# Altium footprint library Resistors.PcbLib: 21 footprints (part 1 of 2)
Each footprint in its own frame and in the unit in brackets; x right, y up, seen from the top. Pads: shape width x height; smd on the part's side, far side on the other; paste and mask are expansions set on the pad; w line width, h text height; cw(c..) or ccw(c..) is an arc to the next point about the centre after c.
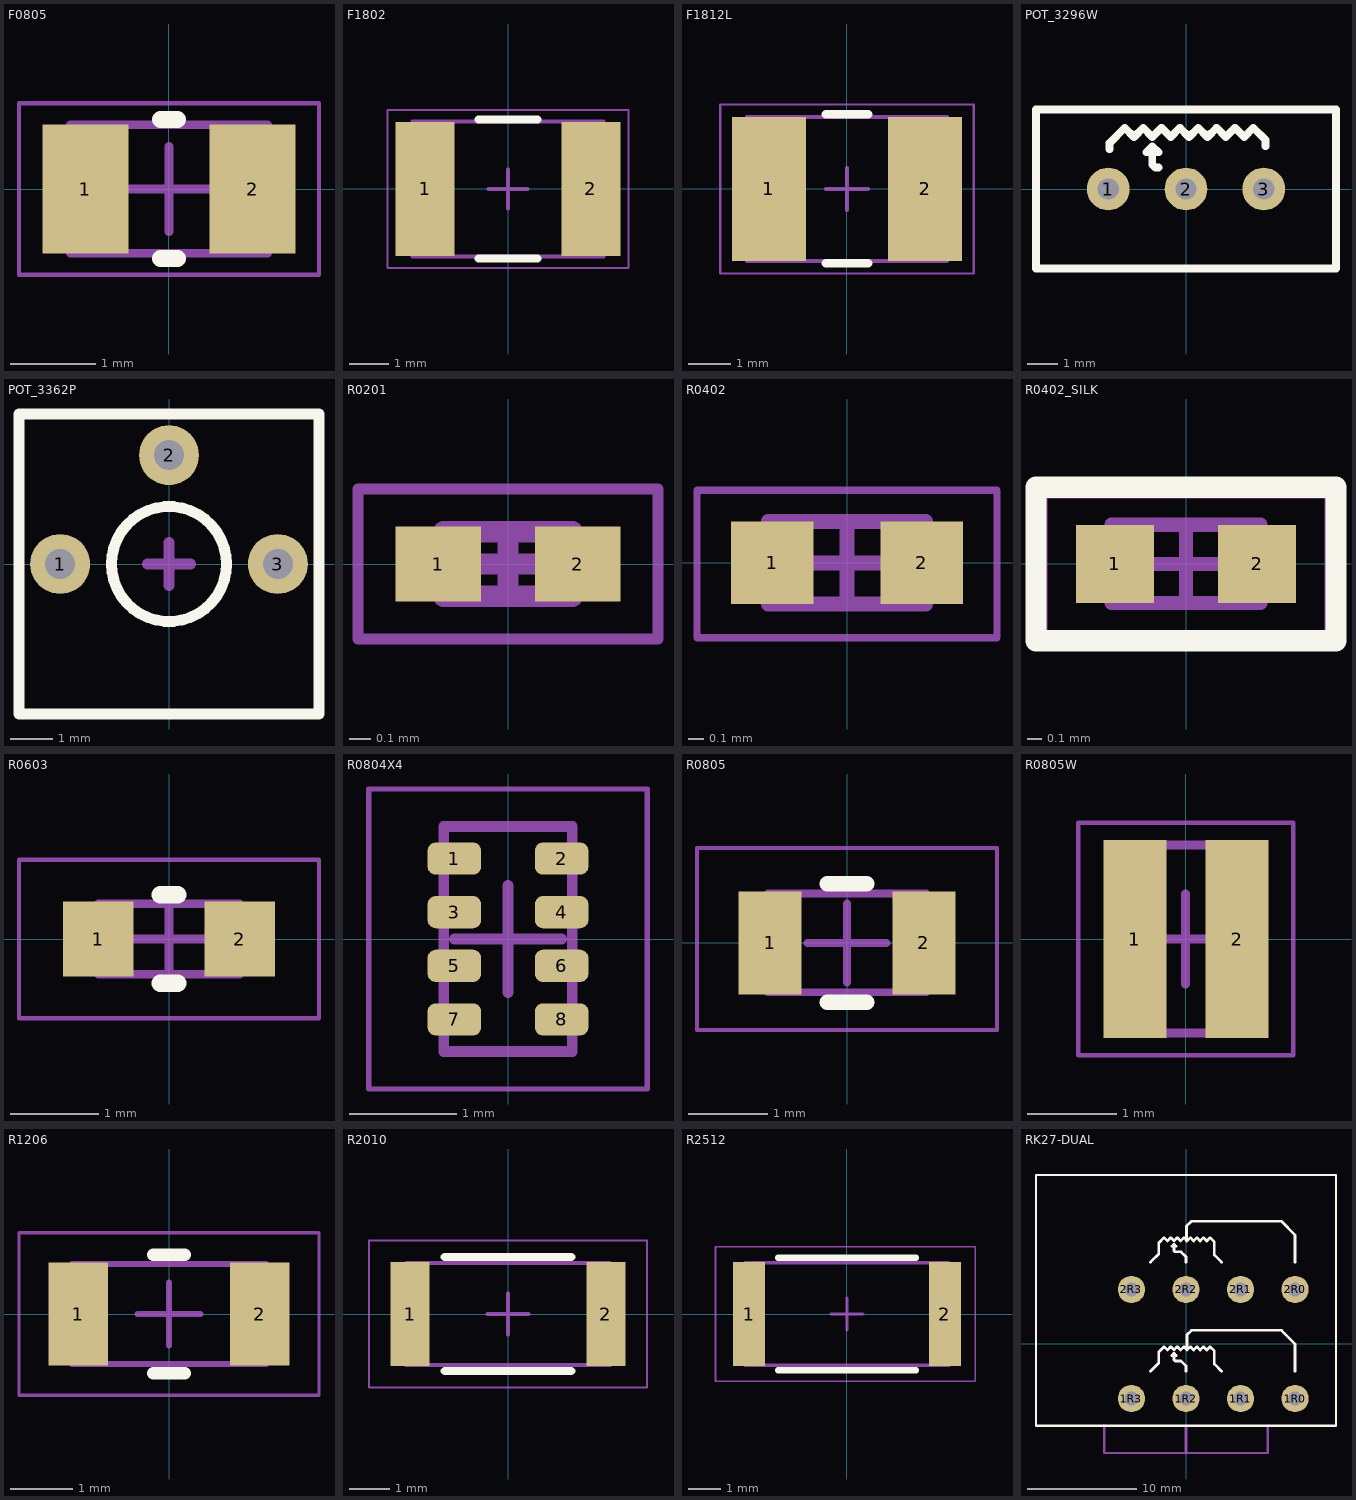
[diagram p0: the footprints below, top view; thin cyan lines are the x and y axes]

## F0805 [mm] "Chip Fuse, 2-Leads, Body 2,15x1,35mm, IPC Medium Density"
height 1.25
pads (2):
  rect 1x1.5 smd mask+0.05: 1(-0.975,0) 2(0.975,0)
Top Overlay:
  lines w0.2: -0.1,-0.81 0.1,-0.81 ; -0.1,0.81 0.1,0.81
Mechanical 13:
  lines w0.1: -1.15,-0.75 1.15,-0.75 1.15,0.75 -1.15,0.75 -1.15,-0.75
Mechanical 15:
  lines w0.05: -1.75,-1 1.75,-1 1.75,1 -1.75,1 -1.75,-1
  lines w0.1: -0.5,0 0.5,0 ; 0,-0.5 0,0.5
3D body "User Library-Part1-227.step": height 0.86, standoff -0.01, extent -1.15,-0.75 1.15,0.75

## F1802 [mm] "Chip Fuse, 2-Leads, Body 4,60x3,24mm, IPC Medium Density"
height 1.6
pads (2):
  rect 1.5x3.4 smd: 1(-2.1,0) 2(2.1,0)
Top Overlay:
  lines w0.2: -0.75,-1.76 0.75,-1.76 ; -0.75,1.76 0.75,1.76
Mechanical 13:
  lines w0.1: -2.415,-1.705 2.415,-1.705 2.415,1.705 -2.415,1.705 -2.415,-1.705
Mechanical 15:
  lines w0.05: -3.05,-2 3.05,-2 3.05,2 -3.05,2 -3.05,-2
  lines w0.1: -0.5,0 0.5,0 ; 0,-0.5 0,0.5
3D body "MF-MSMF075.step": height 0.71, standoff 0, extent -2.28,-1.624 2.27,1.616

## F1812L [mm] "Chip Fuse, 2-Leads, Body 4,55x3,24mm, IPC Medium Density"
height 1.25
pads (2):
  rect 1.75x3.4 smd: 1(-1.85,0) 2(1.85,0)
Top Overlay:
  lines w0.2: -0.5,-1.76 0.5,-1.76 ; -0.5,1.77 0.5,1.77
Mechanical 13:
  lines w0.1: -2.365,-1.705 -2.365,1.705 2.365,1.705 2.365,-1.705 -2.365,-1.705
Mechanical 15:
  lines w0.05: -3,-2 -3,2 3,2 3,-2 -3,-2
  lines w0.1: -0.5,0 0.5,0 ; 0,-0.5 0,0.5
3D body "User Library-1812L.step": height 1.34, standoff 0, extent -2.365,-1.705 2.365,1.705

## POT_3296W [mm] "3296 - 3/8 ” Square Trimpot® Trimming Potentiometer"
height 11.5
pads (3):
  round 1.4 hole 0.7: 1(-2.54,0) 2(0,0) 3(2.54,0)
Top Overlay:
  lines w0.254: -2.5,1.3 -2.5,1.5 ; -0.9,0.7 -1,0.7 -1.1,0.8 -1.1,1.4 ; 2.6,1.4 2.6,1.6 2.2,2 1.9,1.7 1.6,2 1.3,1.7 1,2 0.7,1.7 ; -2.5,1.5 -2,2 -1.7,1.7 ; -2.5,1.5 -2.5,1.5 ; -1.7,1.7 -1.4,2 ; -1.7,1.7 -1.7,1.7 ; -1.4,2 -1.1,1.7 -0.8,2 -0.5,1.7 ; -1.4,2 -1.4,2 ; -1.1,1.4 -0.9,1.2 -1.3,1.2 -1.1,1.4 ; -0.5,1.7 -0.2,2 0.1,1.7 0.4,2 0.7,1.7 ; -0.5,1.7 -0.5,1.7 ; 0.7,1.7 0.7,1.7 ; -4.9,-2.6 4.9,-2.6 4.9,2.6 -4.9,2.6 -4.9,-2.6
3D body "User Library-bourns 3296 pot.step": height 11.55, standoff -6.4, extent -4.765,-2.401 4.765,2.43

## POT_3362P [mm] "3362 - 1/4 ” Square Trimpot® Trimming Potentiometer"
height 4.7
pads (3):
  round 1.4 hole 0.7: 1(-2.54,0) 2(0,2.54) 3(2.54,0)
Top Overlay:
  circle w0.254: c0,0 r1.342
  lines w0.254: -3.5,-3.5 3.5,-3.5 3.5,3.5 -3.5,3.5 -3.5,-3.5
Mechanical 15:
  lines w0.254: -0.5,0 0.5,0 ; 0,-0.5 0,0.021 0,0.5
3D body "User Library-3362P-1-102LF.step": height 4.4, standoff -3, extent -3.3,-3.3 3.3,3.3

## R0201 [mm] "Chip Resistor, 2-Leads, Body 0.60x0.30mm, IPC Medium Density"
height 0.23
pads (2):
  rect 0.4x0.35 smd mask+0.05: 1(-0.325,0) 2(0.325,0)
Mechanical 13:
  lines w0.1: -0.3,-0.15 -0.3,0.15 0.3,0.15 0.3,-0.15 -0.3,-0.15
Mechanical 15:
  lines w0.05: -0.7,-0.35 -0.7,0.35 0.7,0.35 0.7,-0.35 -0.7,-0.35
  lines w0.1: -0.15,0 0.15,0 ; 0,-0.15 0,0.15
3D body "R0201.step": height 0.23, standoff 0, extent -0.3,-0.15 0.3,0.15

## R0402 [mm]
height 0.35
pads (2):
  rect 0.55x0.55 smd mask+0.05: 1(-0.5,0) 2(0.5,0)
Mechanical 13:
  lines w0.1: -0.525,-0.275 0.525,-0.275 0.525,0.275 -0.525,0.275 -0.525,-0.275
Mechanical 15:
  lines w0.05: -1,-0.5 -1,0.486 1,0.486 1,-0.5 -1,-0.5
  lines w0.1: -0.275,0 0.275,0 ; 0,-0.275 0,0.275
3D body "R0402.step": height 0.35, standoff 0, extent -0.525,-0.275 0.525,0.275

## R0402_SILK [mm]
height 0.35
pads (2):
  rect 0.55x0.55 smd mask+0.05: 1(-0.5,0) 2(0.5,0)
Top Overlay:
  lines w0.15: -1.055,-0.54 1.055,-0.54 1.055,0.539 -1.055,0.539 -1.055,-0.54
Mechanical 13:
  lines w0.1: -0.525,-0.275 0.525,-0.275 0.525,0.275 -0.525,0.275 -0.525,-0.275
Mechanical 15:
  lines w0.05: -1,-0.5 -1,0.486 1,0.486 1,-0.5 -1,-0.5
  lines w0.1: -0.275,0 0.275,0 ; 0,-0.275 0,0.275
3D body "R0402.step": height 0.35, standoff 0, extent -0.525,-0.275 0.525,0.275

## R0603 [mm] "Chip Resistor, 2-Leads, Body 1.60x0.80mm, IPC Medium Density"
height 0.8
pads (2):
  rect 0.8x0.85 smd mask+0.05: 1(-0.8,0) 2(0.8,0)
Top Overlay:
  lines w0.2: -0.1,-0.5 0.1,-0.5 ; -0.1,0.5 0.1,0.5
Mechanical 13:
  lines w0.1: -0.8,-0.4 -0.8,0.4 0.8,0.4 0.8,-0.4 -0.8,-0.4
Mechanical 15:
  lines w0.05: -1.7,-0.9 -1.7,0.9 1.7,0.9 1.7,-0.9 -1.7,-0.9
  lines w0.1: -0.4,0 0.4,0 ; 0,-0.4 0,0.4
3D body "R0603_.step": height 0.8, standoff 0, extent -0.8,-0.4 0.8,0.4

## R0804X4 [mm] "Chip Array, Flat, 8-Leads, Pitch 0,50mm,  Body 2,00x1,00mm,  IPC Medium Density"
height 0.5
pads (8):
  rrect50% 0.5x0.3 smd mask+0.05: 1(-0.5,0.75) 2(0.5,0.75) 3(-0.5,0.25) 4(0.5,0.25) 5(-0.5,-0.25) 6(0.5,-0.25) 7(-0.5,-0.75) 8(0.5,-0.75)
Mechanical 13:
  lines w0.1: -0.6,-1.05 0.6,-1.05 0.6,1.05 -0.6,1.05 -0.6,-1.05
Mechanical 15:
  lines w0.05: -1.3,-1.4 1.3,-1.4 1.3,1.4 -1.3,1.4 -1.3,-1.4
  lines w0.1: -0.5,0 0.5,0 ; 0,-0.5 0,0.5
3D body "User Library-CAT10-000.STEP": height 0.4, standoff 0, extent -0.5,-1 0.5,1

## R0805 [mm] "Chip Resistor, 2-Leads, Body 2.00x1.25mm, IPC Medium Density"
height 0.8
pads (2):
  rect 0.8x1.3 smd mask+0.05: 1(-0.975,0) 2(0.975,0)
Top Overlay:
  lines w0.2: -0.25,-0.75 0.25,-0.75 ; -0.25,0.75 0.25,0.75
Mechanical 13:
  lines w0.1: -1,-0.625 -1,0.625 1,0.625 1,-0.625 -1,-0.625
Mechanical 15:
  lines w0.05: -1.9,-1.1 -1.9,1.2 1.9,1.2 1.9,-1.1 -1.9,-1.1
  lines w0.1: -0.5,0 0.5,0 ; 0,-0.5 0,0.5
3D body "R0805_.step": height 0.8, standoff 0, extent -1,-0.625 1,0.625

## R0805W [mm] "Wide Chip Resistor, 2-Leads, Body 1.33x2.00mm, IPC Medium Density"
height 0.5
pads (2):
  rect 0.7x2.21 smd mask+0.05: 1(-0.565,0) 2(0.575,0)
Mechanical 13:
  lines w0.1: -0.725,-1.05 0.725,-1.05 0.725,1.05 -0.725,1.05 -0.725,-1.05
Mechanical 15:
  lines w0.05: -1.2,-1.3 1.2,-1.3 1.2,1.3 -1.2,1.3 -1.2,-1.3
  lines w0.1: -0.5,0 0.5,0 ; 0,-0.5 0,0.5
3D body "RES_2012_SUS.step": height 0.71, standoff 0, extent -0.724,-1.105 0.724,1.105

## R1206 [mm] "Chip Resistor, 2-Leads, Body 3.10x1.60mm, IPC Medium Density"
height 0.8
pads (2):
  rect 0.95x1.65 smd: 1(-1.45,0) 2(1.45,0)
Top Overlay:
  lines w0.2: -0.25,-0.95 0.25,-0.95 ; -0.25,0.95 0.25,0.95
Mechanical 13:
  lines w0.1: -1.55,-0.8 1.55,-0.8 1.55,0.8 -1.55,0.8 -1.55,-0.8
Mechanical 15:
  lines w0.05: -2.4,-1.3 2.4,-1.3 2.4,1.3 -2.4,1.3 -2.4,-1.3
  lines w0.1: -0.5,0 0.5,0 ; 0,-0.5 0,0.5
3D body "R1206_.step": height 0.8, standoff 0, extent -1.55,-0.8 1.55,0.8

## R2010 [mm] "Chip Resistor, 2-Leads, Body 5.00x2.50mm, IPC Medium Density"
height 0.8
pads (2):
  rect 0.95x2.55 smd mask+0.05: 1(-2.4,0) 2(2.4,0)
Top Overlay:
  lines w0.2: -1.55,-1.4 1.55,-1.4 ; -1.55,1.4 1.55,1.4
Mechanical 13:
  lines w0.1: -2.5,-1.25 -2.5,1.25 2.5,1.25 2.5,-1.25 -2.5,-1.25
Mechanical 15:
  lines w0.05: -3.4,-1.8 -3.4,1.8 3.4,1.8 3.4,-1.8 -3.4,-1.8
  lines w0.1: -0.5,0 0.5,0 ; 0,-0.5 0,0.5
3D body "R1210_.step": height 0.8, standoff 0, extent -2.5,-1.25 2.5,1.25

## R2512 [mm] "Chip Resistor, 2-Leads, Body 6.35x3.20mm, IPC Medium Density"
height 0.8
pads (2):
  rect 1x3.25 smd: 1(-3.05,0) 2(3.05,0)
Top Overlay:
  lines w0.2: -2.15,-1.755 2.15,-1.755 ; -2.15,1.755 2.15,1.755
Mechanical 13:
  lines w0.1: -3.175,-1.6 3.175,-1.6 3.175,1.6 -3.175,1.6 -3.175,-1.6
Mechanical 15:
  lines w0.05: -4.1,-2.1 4,-2.1 4,2.1 -4.1,2.1 -4.1,-2.1
  lines w0.1: -0.5,0 0.5,0 ; 0,-0.5 0,0.5
3D body "R2512_.step": height 0.8, standoff 0, extent -3.175,-1.6 3.175,1.6

## RK27-DUAL [mm] "Single-shaft, dual-unit RK27112"
height 24.5
pads (8):
  round 2.5 hole 1.3: 1R0(10,-5) 1R1(5,-5) 1R2(0,-5) 1R3(-5,-5) 2R0(10,5) 2R1(5,5) 2R2(0,5) 2R3(-5,5)
Top Overlay:
  lines w0.2: -13.75,-7.5 -13.75,15.5 13.75,15.5 13.75,-7.5 -13.75,-7.5
  lines w0.254: -3.25,-2.5 -2.5,-1.75 -2.5,-0.95 -2.5,-0.75 ; -3.25,7.5 -2.5,8.25 -2.5,9.05 -2.5,9.25 ; 0,-2.5 0,-2 -0.45,-1.55 -0.9,-1.55 -1,-1.55 -1.1,-1.45 -1.1,-0.85 ; 0,7.5 0,8 -0.45,8.45 -0.9,8.45 -1,8.45 -1.1,8.55 -1.1,9.15 ; 0.051,9.452 0.051,10.801 0.5,11.25 8.75,11.25 10,10 10,7.5 ; 3.25,-2.5 2.6,-1.85 2.6,-0.85 2.6,-0.65 2.2,-0.25 1.9,-0.55 1.6,-0.25 1.3,-0.55 1,-0.25 0.7,-0.55 ; 3.25,7.5 2.6,8.15 2.6,9.15 2.6,9.35 2.2,9.75 1.9,9.45 1.6,9.75 1.3,9.45 1,9.75 0.7,9.45 ; 10,-2.5 10,0 8.75,1.25 0.5,1.25 0.1,0.85 0.1,-0.55 ; -2.5,-0.75 -2.5,-0.75 ; -2.5,-0.75 -2,-0.25 -1.7,-0.55 ; -2.5,9.25 -2.5,9.25 ; -2.5,9.25 -2,9.75 -1.7,9.45 ; -1.7,-0.55 -1.7,-0.55 ; -1.7,-0.55 -1.4,-0.25 ; -1.7,9.45 -1.7,9.45 ; -1.7,9.45 -1.4,9.75 ; -1.4,-0.25 -1.4,-0.25 ; -1.4,-0.25 -1.1,-0.55 -0.8,-0.25 -0.5,-0.55 ; -1.4,9.75 -1.4,9.75 ; -1.4,9.75 -1.1,9.45 -0.8,9.75 -0.5,9.45 ; -1.1,-0.85 -1.3,-1.05 -0.9,-1.05 -1.1,-0.85 ; -1.1,9.15 -1.3,8.95 -0.9,8.95 -1.1,9.15 ; -0.5,-0.55 -0.5,-0.55 ; -0.5,-0.55 -0.2,-0.25 0.1,-0.55 ; -0.5,9.45 -0.5,9.45 ; -0.5,9.45 -0.2,9.75 0.1,9.45 0.4,9.75 0.7,9.45 ; 0.1,-0.55 0.4,-0.25 0.7,-0.55 ; 0.7,-0.55 0.7,-0.55 ; 0.7,9.45 0.7,9.45
Mechanical 13:
  lines w0.2: -7.5,-7.5 -7.5,-10 7.5,-10 7.5,-7.5
Mechanical 15:
  lines w0.254: 0,-10 0,-7.5
3D body "User Library-ALPS RK27.step": height 25, standoff -4, extent -13.5,-31 13.5,15.4